# Altium footprint library adafruit.PCBLIB: 643 footprints (part 3 of 41)
Each footprint in its own frame and in the unit in brackets; x right, y up, seen from the top. Pads: shape width x height; smd on the part's side, far side on the other; paste and mask are expansions set on the pad; w line width, h text height; cw(c..) or ccw(c..) is an arc to the next point about the centre after c.
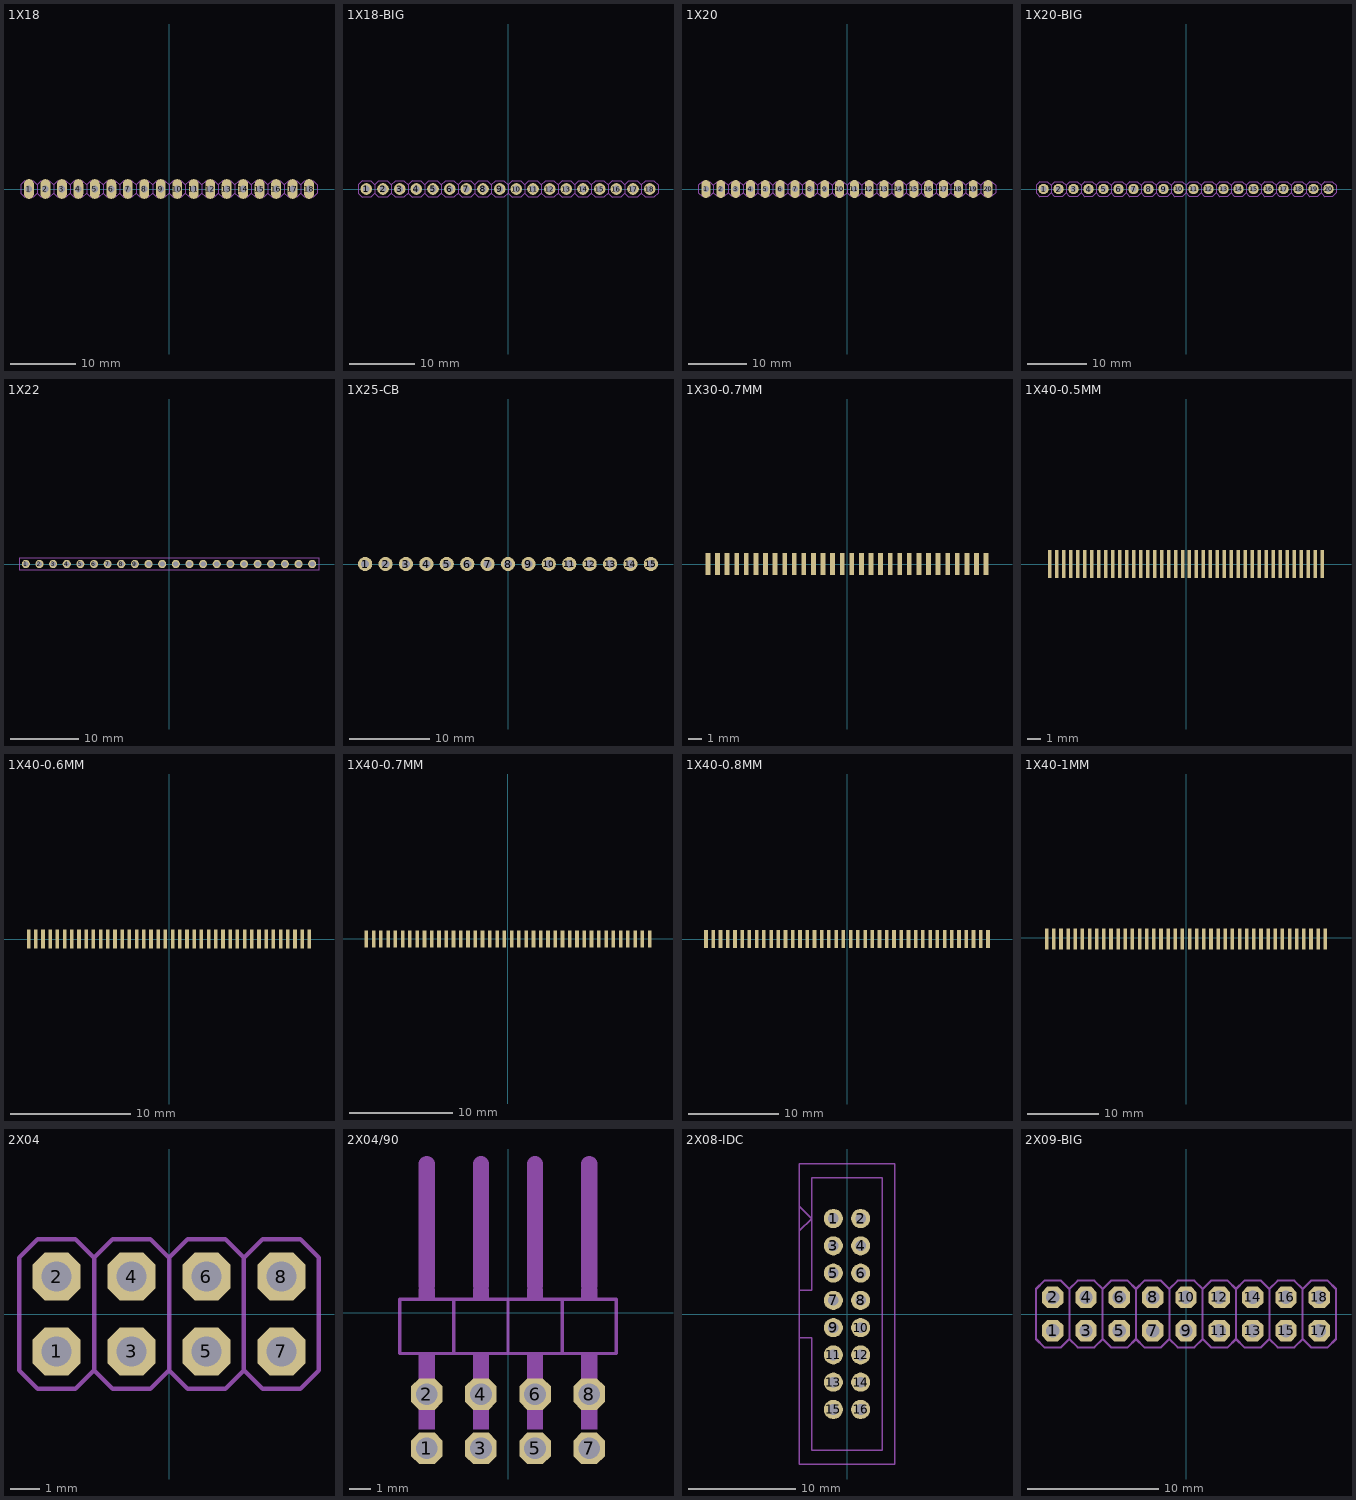
[diagram p2: the footprints below, top view; thin cyan lines are the x and y axes]

## 1X18 [mil]
pads (18):
  oval 60x120 hole 40: 1(-850,0) 2(-750,0) 3(-650,0) 4(-550,0) 5(-450,0) 6(-350,0) 7(-250,0) 8(-150,0) 9(-50,0) 10(50,0) 11(150,0) 12(250,0) 13(350,0) 14(450,0) 15(550,0) 16(650,0) 17(750,0) 18(850,0)
Mechanical 2:
  lines w6: -800,-25 -800,25 ; -800,-25 -825,-50 -875,-50 -900,-25 -900,25 -875,50 -825,50 -800,25 ; -800,-25 -775,-50 -725,-50 -700,-25 ; -800,25 -775,50 -725,50 -700,25 ; -700,-25 -675,-50 -625,-50 -600,-25 ; -700,-25 -700,25 ; -700,25 -675,50 -625,50 -600,25 ; -600,-25 -600,25 ; -600,-25 -575,-50 -525,-50 -500,-25 ; -600,25 -575,50 -525,50 -500,25 ; -500,-25 -500,25 ; -500,-25 -475,-50 -425,-50 -400,-25 ; -500,25 -475,50 -425,50 -400,25 ; -400,-25 -375,-50 -325,-50 -300,-25 ; -400,-25 -400,25 ; -400,25 -375,50 -325,50 -300,25 ; -300,-25 -300,25 ; -300,-25 -275,-50 -225,-50 -200,-25 ; -300,25 -275,50 -225,50 -200,25 ; -200,-25 -200,25 ; -200,-25 -175,-50 -125,-50 -100,-25 ; -200,25 -175,50 -125,50 -100,25 ; -100,-25 -75,-50 -25,-50 0,-25 ; -100,-25 -100,25 ; -100,25 -75,50 -25,50 0,25 ; 0,-25 0,25 ; 0,-25 25,-50 75,-50 100,-25 ; 0,25 25,50 75,50 100,25 ; 100,-25 100,25 ; 100,-25 125,-50 175,-50 200,-25 ; 100,25 125,50 175,50 200,25 ; 200,-25 225,-50 275,-50 300,-25 ; 200,-25 200,25 ; 200,25 225,50 275,50 300,25 ; 300,-25 300,25 ; 300,-25 325,-50 375,-50 400,-25 ; 300,25 325,50 375,50 400,25 ; 400,-25 400,25 ; 400,-25 425,-50 475,-50 500,-25 ; 400,25 425,50 475,50 500,25 ; 500,-25 525,-50 575,-50 600,-25 ; 500,-25 500,25 ; 500,25 525,50 575,50 600,25 ; 600,-25 600,25 ; 600,-25 625,-50 675,-50 700,-25 ; 600,25 625,50 675,50 700,25 ; 700,-25 700,25 ; 700,-25 725,-50 775,-50 800,-25 ; 700,25 725,50 775,50 800,25 ; 800,-25 800,25 ; 800,-25 825,-50 875,-50 900,-25 900,25 875,50 825,50 800,25
Mechanical 18:
  rectangle: 740,-10 760,10
  rectangle: 640,-10 660,10
  rectangle: 540,-10 560,10
  rectangle: 440,-10 460,10
  rectangle: 340,-10 360,10
  rectangle: 240,-10 260,10
  rectangle: 140,-10 160,10
  rectangle: 40,-10 60,10
  rectangle: -60,-10 -40,10
  rectangle: -160,-10 -140,10
  rectangle: -260,-10 -240,10
  rectangle: -360,-10 -340,10
  rectangle: -460,-10 -440,10
  rectangle: -560,-10 -540,10
  rectangle: -660,-10 -640,10
  rectangle: -760,-10 -740,10
  rectangle: -860,-10 -840,10
  rectangle: 840,-10 860,10

## 1X18-BIG [mil]
pads (18):
  round 70 hole 40: 1(-850,0) 2(-750,0) 3(-650,0) 4(-550,0) 5(-450,0) 6(-350,0) 7(-250,0) 8(-150,0) 9(-50,0) 10(50,0) 11(150,0) 12(250,0) 13(350,0) 14(450,0) 15(550,0) 16(650,0) 17(750,0) 18(850,0)
Mechanical 2:
  lines w6: -800,-25 -800,25 ; -800,-25 -825,-50 -875,-50 -900,-25 -900,25 -875,50 -825,50 -800,25 ; -800,-25 -775,-50 -725,-50 -700,-25 ; -800,25 -775,50 -725,50 -700,25 ; -700,-25 -675,-50 -625,-50 -600,-25 ; -700,-25 -700,25 ; -700,25 -675,50 -625,50 -600,25 ; -600,-25 -600,25 ; -600,-25 -575,-50 -525,-50 -500,-25 ; -600,25 -575,50 -525,50 -500,25 ; -500,-25 -500,25 ; -500,-25 -475,-50 -425,-50 -400,-25 ; -500,25 -475,50 -425,50 -400,25 ; -400,-25 -375,-50 -325,-50 -300,-25 ; -400,-25 -400,25 ; -400,25 -375,50 -325,50 -300,25 ; -300,-25 -300,25 ; -300,-25 -275,-50 -225,-50 -200,-25 ; -300,25 -275,50 -225,50 -200,25 ; -200,-25 -200,25 ; -200,-25 -175,-50 -125,-50 -100,-25 ; -200,25 -175,50 -125,50 -100,25 ; -100,-25 -75,-50 -25,-50 0,-25 ; -100,-25 -100,25 ; -100,25 -75,50 -25,50 0,25 ; 0,-25 0,25 ; 0,-25 25,-50 75,-50 100,-25 ; 0,25 25,50 75,50 100,25 ; 100,-25 100,25 ; 100,-25 125,-50 175,-50 200,-25 ; 100,25 125,50 175,50 200,25 ; 200,-25 225,-50 275,-50 300,-25 ; 200,-25 200,25 ; 200,25 225,50 275,50 300,25 ; 300,-25 300,25 ; 300,-25 325,-50 375,-50 400,-25 ; 300,25 325,50 375,50 400,25 ; 400,-25 400,25 ; 400,-25 425,-50 475,-50 500,-25 ; 400,25 425,50 475,50 500,25 ; 500,-25 525,-50 575,-50 600,-25 ; 500,-25 500,25 ; 500,25 525,50 575,50 600,25 ; 600,-25 600,25 ; 600,-25 625,-50 675,-50 700,-25 ; 600,25 625,50 675,50 700,25 ; 700,-25 700,25 ; 700,-25 725,-50 775,-50 800,-25 ; 700,25 725,50 775,50 800,25 ; 800,-25 800,25 ; 800,-25 825,-50 875,-50 900,-25 900,25 875,50 825,50 800,25
Mechanical 18:
  rectangle: 740,-10 760,10
  rectangle: 640,-10 660,10
  rectangle: 540,-10 560,10
  rectangle: 440,-10 460,10
  rectangle: 340,-10 360,10
  rectangle: 240,-10 260,10
  rectangle: 140,-10 160,10
  rectangle: 40,-10 60,10
  rectangle: -60,-10 -40,10
  rectangle: -160,-10 -140,10
  rectangle: -260,-10 -240,10
  rectangle: -360,-10 -340,10
  rectangle: -460,-10 -440,10
  rectangle: -560,-10 -540,10
  rectangle: -660,-10 -640,10
  rectangle: -760,-10 -740,10
  rectangle: -860,-10 -840,10
  rectangle: 840,-10 860,10

## 1X20 [mil]
pads (20):
  oval 60x120 hole 40: 1(-950,0) 2(-850,0) 3(-750,0) 4(-650,0) 5(-550,0) 6(-450,0) 7(-350,0) 8(-250,0) 9(-150,0) 10(-50,0) 11(50,0) 12(150,0) 13(250,0) 14(350,0) 15(450,0) 16(550,0) 17(650,0) 18(750,0) 19(850,0) 20(950,0)
Mechanical 2:
  lines w6: -900,-25 -900,25 ; -900,-25 -925,-50 -975,-50 -1000,-25 -1000,25 -975,50 -925,50 -900,25 ; -900,-25 -875,-50 -825,-50 -800,-25 ; -900,25 -875,50 -825,50 -800,25 ; -800,-25 -775,-50 -725,-50 -700,-25 ; -800,-25 -800,25 ; -800,25 -775,50 -725,50 -700,25 ; -700,-25 -700,25 ; -700,-25 -675,-50 -625,-50 -600,-25 ; -700,25 -675,50 -625,50 -600,25 ; -600,-25 -600,25 ; -600,-25 -575,-50 -525,-50 -500,-25 ; -600,25 -575,50 -525,50 -500,25 ; -500,-25 -475,-50 -425,-50 -400,-25 ; -500,-25 -500,25 ; -500,25 -475,50 -425,50 -400,25 ; -400,-25 -400,25 ; -400,-25 -375,-50 -325,-50 -300,-25 ; -400,25 -375,50 -325,50 -300,25 ; -300,-25 -300,25 ; -300,-25 -275,-50 -225,-50 -200,-25 ; -300,25 -275,50 -225,50 -200,25 ; -200,-25 -175,-50 -125,-50 -100,-25 ; -200,-25 -200,25 ; -200,25 -175,50 -125,50 -100,25 ; -100,-25 -100,25 ; -100,-25 -75,-50 -25,-50 0,-25 ; -100,25 -75,50 -25,50 0,25 ; 0,-25 0,25 ; 0,-25 25,-50 75,-50 100,-25 ; 0,25 25,50 75,50 100,25 ; 100,-25 125,-50 175,-50 200,-25 ; 100,-25 100,25 ; 100,25 125,50 175,50 200,25 ; 200,-25 200,25 ; 200,-25 225,-50 275,-50 300,-25 ; 200,25 225,50 275,50 300,25 ; 300,-25 300,25 ; 300,-25 325,-50 375,-50 400,-25 ; 300,25 325,50 375,50 400,25 ; 400,-25 425,-50 475,-50 500,-25 ; 400,-25 400,25 ; 400,25 425,50 475,50 500,25 ; 500,-25 500,25 ; 500,-25 525,-50 575,-50 600,-25 ; 500,25 525,50 575,50 600,25 ; 600,-25 600,25 ; 600,-25 625,-50 675,-50 700,-25 ; 600,25 625,50 675,50 700,25 ; 700,-25 725,-50 775,-50 800,-25 ; 700,-25 700,25 ; 700,25 725,50 775,50 800,25 ; 800,-25 800,25 ; 800,-25 825,-50 875,-50 900,-25 ; 800,25 825,50 875,50 900,25 ; 900,-25 900,25 ; 900,-25 925,-50 975,-50 1000,-25 1000,25 975,50 925,50 900,25
Mechanical 18:
  rectangle: 840,-10 860,10
  rectangle: 740,-10 760,10
  rectangle: 640,-10 660,10
  rectangle: 540,-10 560,10
  rectangle: 440,-10 460,10
  rectangle: 340,-10 360,10
  rectangle: 240,-10 260,10
  rectangle: 140,-10 160,10
  rectangle: 40,-10 60,10
  rectangle: -60,-10 -40,10
  rectangle: -160,-10 -140,10
  rectangle: -260,-10 -240,10
  rectangle: -360,-10 -340,10
  rectangle: -460,-10 -440,10
  rectangle: -560,-10 -540,10
  rectangle: -660,-10 -640,10
  rectangle: -760,-10 -740,10
  rectangle: -860,-10 -840,10
  rectangle: -960,-10 -940,10
  rectangle: 940,-10 960,10

## 1X20-BIG [mil]
pads (20):
  round 70 hole 40: 1(-950,0) 2(-850,0) 3(-750,0) 4(-650,0) 5(-550,0) 6(-450,0) 7(-350,0) 8(-250,0) 9(-150,0) 10(-50,0) 11(50,0) 12(150,0) 13(250,0) 14(350,0) 15(450,0) 16(550,0) 17(650,0) 18(750,0) 19(850,0) 20(950,0)
Mechanical 2:
  lines w6: -900,-25 -900,25 ; -900,-25 -925,-50 -975,-50 -1000,-25 -1000,25 -975,50 -925,50 -900,25 ; -900,-25 -875,-50 -825,-50 -800,-25 ; -900,25 -875,50 -825,50 -800,25 ; -800,-25 -775,-50 -725,-50 -700,-25 ; -800,-25 -800,25 ; -800,25 -775,50 -725,50 -700,25 ; -700,-25 -700,25 ; -700,-25 -675,-50 -625,-50 -600,-25 ; -700,25 -675,50 -625,50 -600,25 ; -600,-25 -600,25 ; -600,-25 -575,-50 -525,-50 -500,-25 ; -600,25 -575,50 -525,50 -500,25 ; -500,-25 -475,-50 -425,-50 -400,-25 ; -500,-25 -500,25 ; -500,25 -475,50 -425,50 -400,25 ; -400,-25 -400,25 ; -400,-25 -375,-50 -325,-50 -300,-25 ; -400,25 -375,50 -325,50 -300,25 ; -300,-25 -300,25 ; -300,-25 -275,-50 -225,-50 -200,-25 ; -300,25 -275,50 -225,50 -200,25 ; -200,-25 -175,-50 -125,-50 -100,-25 ; -200,-25 -200,25 ; -200,25 -175,50 -125,50 -100,25 ; -100,-25 -100,25 ; -100,-25 -75,-50 -25,-50 0,-25 ; -100,25 -75,50 -25,50 0,25 ; 0,-25 0,25 ; 0,-25 25,-50 75,-50 100,-25 ; 0,25 25,50 75,50 100,25 ; 100,-25 125,-50 175,-50 200,-25 ; 100,-25 100,25 ; 100,25 125,50 175,50 200,25 ; 200,-25 200,25 ; 200,-25 225,-50 275,-50 300,-25 ; 200,25 225,50 275,50 300,25 ; 300,-25 300,25 ; 300,-25 325,-50 375,-50 400,-25 ; 300,25 325,50 375,50 400,25 ; 400,-25 425,-50 475,-50 500,-25 ; 400,-25 400,25 ; 400,25 425,50 475,50 500,25 ; 500,-25 500,25 ; 500,-25 525,-50 575,-50 600,-25 ; 500,25 525,50 575,50 600,25 ; 600,-25 600,25 ; 600,-25 625,-50 675,-50 700,-25 ; 600,25 625,50 675,50 700,25 ; 700,-25 725,-50 775,-50 800,-25 ; 700,-25 700,25 ; 700,25 725,50 775,50 800,25 ; 800,-25 800,25 ; 800,-25 825,-50 875,-50 900,-25 ; 800,25 825,50 875,50 900,25 ; 900,-25 900,25 ; 900,-25 925,-50 975,-50 1000,-25 1000,25 975,50 925,50 900,25
Mechanical 18:
  rectangle: 840,-10 860,10
  rectangle: 740,-10 760,10
  rectangle: 640,-10 660,10
  rectangle: 540,-10 560,10
  rectangle: 440,-10 460,10
  rectangle: 340,-10 360,10
  rectangle: 240,-10 260,10
  rectangle: 140,-10 160,10
  rectangle: 40,-10 60,10
  rectangle: -60,-10 -40,10
  rectangle: -160,-10 -140,10
  rectangle: -260,-10 -240,10
  rectangle: -360,-10 -340,10
  rectangle: -460,-10 -440,10
  rectangle: -560,-10 -540,10
  rectangle: -660,-10 -640,10
  rectangle: -760,-10 -740,10
  rectangle: -860,-10 -840,10
  rectangle: -960,-10 -940,10
  rectangle: 940,-10 960,10

## 1X22 [mil]
pads (22):
  round 47.25 hole 31.5: 1(-826.77,0) 2(-748.03,0) 3(-669.29,0) 4(-590.55,0) 5(-511.81,0) 6(-433.07,0) 7(-354.33,0) 8(-275.59,0) 9(-196.85,0) 10(-118.11,0) 11(-39.37,0) 12(39.37,0) 13(118.11,0) 14(196.85,0) 15(275.59,0) 16(354.33,0) 17(433.07,0) 18(511.81,0) 19(590.55,0) 20(669.29,0) 21(748.03,0) 22(826.77,0)
Mechanical 2:
  lines w5: -866.14,-31.89 866.14,-31.89 866.14,31.89 -866.14,31.89 -866.14,-31.89

## 1X25-CB [mil]
pads (15):
  round 70 hole 40: 1(-700,0) 2(-600,0) 3(-500,0) 4(-400,0) 5(-300,0) 6(-200,0) 7(-100,0) 8(0,0) 9(100,0) 10(200,0) 11(300,0) 12(400,0) 13(500,0) 14(600,0) 15(700,0)

## 1X30-0.7MM [mm]
pads (30):
  rect 0.35x1.6 smd: 1(-10.15,0) 2(-9.45,0) 3(-8.75,0) 4(-8.05,0) 5(-7.35,0) 6(-6.65,0) 7(-5.95,0) 8(-5.25,0) 9(-4.55,0) 10(-3.85,0) 11(-3.15,0) 12(-2.45,0) 13(-1.75,0) 14(-1.05,0) 15(-0.35,0) 16(0.35,0) 17(1.05,0) 18(1.75,0) 19(2.45,0) 20(3.15,0) 21(3.85,0) 22(4.55,0) 23(5.25,0) 24(5.95,0) 25(6.65,0) 26(7.35,0) 27(8.05,0) 28(8.75,0) 29(9.45,0) 30(10.15,0)

## 1X40-0.5MM [mm]
pads (40):
  rect 0.25x2 smd: 1(-9.75,0) 2(-9.25,0) 3(-8.75,0) 4(-8.25,0) 5(-7.75,0) 6(-7.25,0) 7(-6.75,0) 8(-6.25,0) 9(-5.75,0) 10(-5.25,0) 11(-4.75,0) 12(-4.25,0) 13(-3.75,0) 14(-3.25,0) 15(-2.75,0) 16(-2.25,0) 17(-1.75,0) 18(-1.25,0) 19(-0.75,0) 20(-0.25,0) 21(0.25,0) 22(0.75,0) 23(1.25,0) 24(1.75,0) 25(2.25,0) 26(2.75,0) 27(3.25,0) 28(3.75,0) 29(4.25,0) 30(4.75,0) 31(5.25,0) 32(5.75,0) 33(6.25,0) 34(6.75,0) 35(7.25,0) 36(7.75,0) 37(8.25,0) 38(8.75,0) 39(9.25,0) 40(9.75,0)

## 1X40-0.6MM [mm]
pads (40):
  rect 0.3x1.6 smd: 1(-11.7,0) 2(-11.1,0) 3(-10.5,0) 4(-9.9,0) 5(-9.3,0) 6(-8.7,0) 7(-8.1,0) 8(-7.5,0) 9(-6.9,0) 10(-6.3,0) 11(-5.7,0) 12(-5.1,0) 13(-4.5,0) 14(-3.9,0) 15(-3.3,0) 16(-2.7,0) 17(-2.1,0) 18(-1.5,0) 19(-0.9,0) 20(-0.3,0) 21(0.3,0) 22(0.9,0) 23(1.5,0) 24(2.1,0) 25(2.7,0) 26(3.3,0) 27(3.9,0) 28(4.5,0) 29(5.1,0) 30(5.7,0) 31(6.3,0) 32(6.9,0) 33(7.5,0) 34(8.1,0) 35(8.7,0) 36(9.3,0) 37(9.9,0) 38(10.5,0) 39(11.1,0) 40(11.7,0)

## 1X40-0.7MM [mm]
pads (40):
  rect 0.35x1.6 smd: 1(-13.65,0) 2(-12.95,0) 3(-12.25,0) 4(-11.55,0) 5(-10.85,0) 6(-10.15,0) 7(-9.45,0) 8(-8.75,0) 9(-8.05,0) 10(-7.35,0) 11(-6.65,0) 12(-5.95,0) 13(-5.25,0) 14(-4.55,0) 15(-3.85,0) 16(-3.15,0) 17(-2.45,0) 18(-1.75,0) 19(-1.05,0) 20(-0.35,0) 21(0.35,0) 22(1.05,0) 23(1.75,0) 24(2.45,0) 25(3.15,0) 26(3.85,0) 27(4.55,0) 28(5.25,0) 29(5.95,0) 30(6.65,0) 31(7.35,0) 32(8.05,0) 33(8.75,0) 34(9.45,0) 35(10.15,0) 36(10.85,0) 37(11.55,0) 38(12.25,0) 39(12.95,0) 40(13.65,0)

## 1X40-0.8MM [mm]
pads (40):
  rect 0.4x2 smd: 1(-15.6,0) 2(-14.8,0) 3(-14,0) 4(-13.2,0) 5(-12.4,0) 6(-11.6,0) 7(-10.8,0) 8(-10,0) 9(-9.2,0) 10(-8.4,0) 11(-7.6,0) 12(-6.8,0) 13(-6,0) 14(-5.2,0) 15(-4.4,0) 16(-3.6,0) 17(-2.8,0) 18(-2,0) 19(-1.2,0) 20(-0.4,0) 21(0.4,0) 22(1.2,0) 23(2,0) 24(2.8,0) 25(3.6,0) 26(4.4,0) 27(5.2,0) 28(6,0) 29(6.8,0) 30(7.6,0) 31(8.4,0) 32(9.2,0) 33(10,0) 34(10.8,0) 35(11.6,0) 36(12.4,0) 37(13.2,0) 38(14,0) 39(14.8,0) 40(15.6,0)

## 1X40-1MM [mm]
pads (40):
  rect 0.5x3 smd: 1(-19.5,-0.17) 2(-18.5,-0.17) 3(-17.5,-0.17) 4(-16.5,-0.17) 5(-15.5,-0.17) 6(-14.5,-0.17) 7(-13.5,-0.17) 8(-12.5,-0.17) 9(-11.5,-0.17) 10(-10.5,-0.17) 11(-9.5,-0.17) 12(-8.5,-0.17) 13(-7.5,-0.17) 14(-6.5,-0.17) 15(-5.5,-0.17) 16(-4.5,-0.17) 17(-3.5,-0.17) 18(-2.5,-0.17) 19(-1.5,-0.17) 20(-0.5,-0.17) 21(0.5,-0.17) 22(1.5,-0.17) 23(2.5,-0.17) 24(3.5,-0.17) 25(4.5,-0.17) 26(5.5,-0.17) 27(6.5,-0.17) 28(7.5,-0.17) 29(8.5,-0.17) 30(9.5,-0.17) 31(10.5,-0.17) 32(11.5,-0.17) 33(12.5,-0.17) 34(13.5,-0.17) 35(14.5,-0.17) 36(15.5,-0.17) 37(16.5,-0.17) 38(17.5,-0.17) 39(18.5,-0.17) 40(19.5,-0.17)

## 2X04 [mil]
pads (8):
  oct 63.9x63.9 hole 40: 1(-150,-50) 2(-150,50) 3(-50,-50) 4(-50,50) 5(50,-50) 6(50,50) 7(150,-50) 8(150,50)
Mechanical 2:
  lines w6: -100,-75 -125,-100 -175,-100 -200,-75 -200,75 -175,100 -125,100 -100,75 ; -100,-75 -75,-100 -25,-100 0,-75 ; -100,-75 -100,75 ; -100,75 -75,100 -25,100 0,75 ; 0,-75 25,-100 75,-100 100,-75 ; 0,-75 0,75 ; 0,75 25,100 75,100 100,75 ; 100,-75 100,75 ; 100,-75 125,-100 175,-100 200,-75 200,75 175,100 125,100 100,75
Mechanical 18:
  rectangle: -160,-60 -140,-40
  rectangle: -160,40 -140,60
  rectangle: -60,40 -40,60
  rectangle: -60,-60 -40,-40
  rectangle: 40,40 60,60
  rectangle: 40,-60 60,-40
  rectangle: 140,40 160,60
  rectangle: 140,-60 160,-40

## 2X04/90 [mil]
pads (8):
  oct 58.09x58.09 hole 40: 1(-150,-250) 2(-150,-150) 3(-50,-250) 4(-50,-150) 5(50,-250) 6(50,-150) 7(150,-250) 8(150,-150)
Mechanical 2:
  rectangle: -165,25 -135,45
  rectangle: -65,25 -35,45
  rectangle: 35,25 65,45
  rectangle: 135,25 165,45
  rectangle: -165,-115 -135,-75
  rectangle: -65,-115 -35,-75
  rectangle: -165,-215 -135,-185
  rectangle: -65,-215 -35,-185
  rectangle: 35,-115 65,-75
  rectangle: 135,-115 165,-75
  rectangle: 35,-215 65,-185
  rectangle: 135,-215 165,-185
  lines w6: -100,-75 -200,-75 -200,25 -100,25 ; -100,-75 -100,25 ; -100,-75 0,-75 ; -100,25 0,25 ; 0,-75 0,25 ; 0,-75 100,-75 ; 0,25 100,25 ; 100,-75 100,25 ; 100,-75 200,-75 200,25 100,25
  lines w30: -150,50 -150,275 ; -50,50 -50,275 ; 50,50 50,275 ; 150,50 150,275
Mechanical 18:
  rectangle: -165,-185 -135,-115
  rectangle: -65,-185 -35,-115
  rectangle: 35,-185 65,-115
  rectangle: 135,-185 165,-115

## 2X08-IDC [mil]
pads (16):
  round 70 hole 39.37: 1(-50,350) 2(50,350) 3(-50,250) 4(50,250) 5(-50,150) 6(50,150) 7(-50,50) 8(50,50) 9(-50,-50) 10(50,-50) 11(-50,-150) 12(50,-150) 13(-50,-250) 14(50,-250) 15(-50,-350) 16(50,-350)
Mechanical 2:
  lines w5: -175,-87.5 -175,-550 175,-550 175,550 -175,550 -175,395 ; -175,-87.5 -130,-87.5 -130,-500 130,-500 130,500 -130,500 -130,350 ; -175,-87.5 -175,87.5 ; -175,87.5 -175,305 ; -175,87.5 -130,87.5 -130,350 ; -175,305 -175,395 ; -175,305 -130,350 ; -175,395 -130,350

## 2X09-BIG [mil]
pads (18):
  oct 63.9x63.9 hole 40: 1(-400,-50) 2(-400,50) 3(-300,-50) 4(-300,50) 5(-200,-50) 6(-200,50) 7(-100,-50) 8(-100,50) 9(0,-50) 10(0,50) 11(100,-50) 12(100,50) 13(200,-50) 14(200,50) 15(300,-50) 16(300,50) 17(400,-50) 18(400,50)
Mechanical 2:
  lines w6: -350,-75 -375,-100 -425,-100 -450,-75 -450,75 -425,100 -375,100 -350,75 ; -350,-75 -325,-100 -275,-100 -250,-75 ; -350,-75 -350,75 ; -350,75 -325,100 -275,100 -250,75 ; -250,-75 -225,-100 -175,-100 -150,-75 ; -250,-75 -250,75 ; -250,75 -225,100 -175,100 -150,75 ; -150,-75 -125,-100 -75,-100 -50,-75 ; -150,-75 -150,75 ; -150,75 -125,100 -75,100 -50,75 ; -50,-75 -25,-100 25,-100 50,-75 ; -50,-75 -50,75 ; -50,75 -25,100 25,100 50,75 ; 50,-75 75,-100 125,-100 150,-75 ; 50,-75 50,75 ; 50,75 75,100 125,100 150,75 ; 150,-75 175,-100 225,-100 250,-75 ; 150,-75 150,75 ; 150,75 175,100 225,100 250,75 ; 250,-75 275,-100 325,-100 350,-75 ; 250,-75 250,75 ; 250,75 275,100 325,100 350,75 ; 350,-75 350,75 ; 350,-75 375,-100 425,-100 450,-75 450,75 425,100 375,100 350,75
Mechanical 18:
  rectangle: -410,-60 -390,-40
  rectangle: -410,40 -390,60
  rectangle: -310,40 -290,60
  rectangle: -310,-60 -290,-40
  rectangle: -210,40 -190,60
  rectangle: -210,-60 -190,-40
  rectangle: -110,40 -90,60
  rectangle: -10,40 10,60
  rectangle: 90,40 110,60
  rectangle: -110,-60 -90,-40
  rectangle: -10,-60 10,-40
  rectangle: 90,-60 110,-40
  rectangle: 190,40 210,60
  rectangle: 190,-60 210,-40
  rectangle: 290,40 310,60
  rectangle: 290,-60 310,-40
  rectangle: 390,40 410,60
  rectangle: 390,-60 410,-40